# Altium footprint library LPON_CAP.PcbLib: 108 footprints (part 4 of 7)
Each footprint in its own frame and in the unit in brackets; x right, y up, seen from the top. Pads: shape width x height; smd on the part's side, far side on the other; paste and mask are expansions set on the pad; w line width, h text height; cw(c..) or ccw(c..) is an arc to the next point about the centre after c.
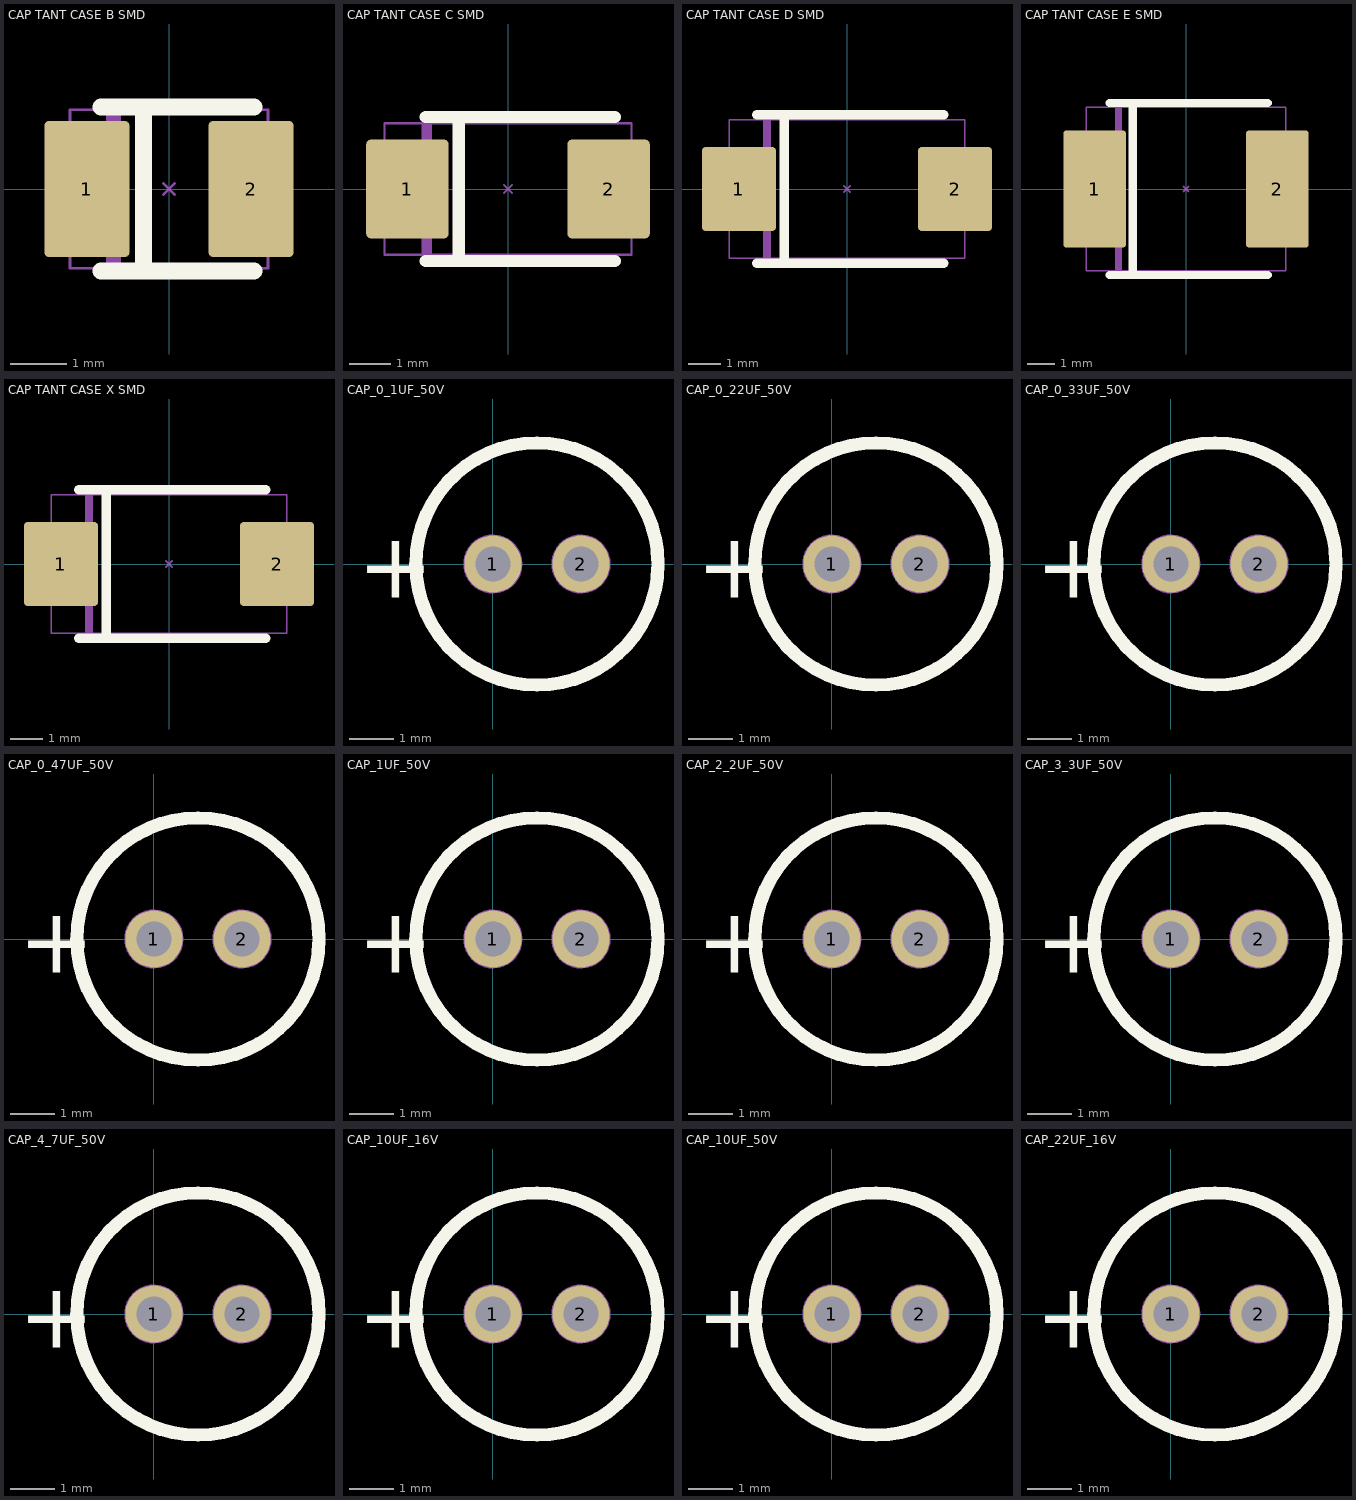
[diagram p3: the footprints below, top view; thin cyan lines are the x and y axes]

## CAP TANT CASE B SMD [mm]
height 2.1
pads (2):
  rrect10% 1.5x2.4 smd mask+0.1: 1(-1.45,0) 2(1.45,0)
Top Overlay:
  lines w0.3: -1.2,-1.45 1.5,-1.45 ; -1.2,1.45 1.5,1.45 ; -0.45,-1.45 -0.45,1.45
Mechanical 2:
  rectangle: -1.11,-1.4 -0.85,1.4
  lines w0.05: -1.5,0 -1.2,0 ; -1.35,-0.15 -1.35,0.15 ; -0.1,-0.1 0.1,0.1 ; -0.1,0.1 0.1,-0.1 ; -1.75,-1.4 1.75,-1.4 1.75,1.4 -1.75,1.4 -1.75,-1.4
3D body "User Library-CaseB_3528-21.STEP": height 2, standoff 0.1, extent -1.75,-1.4 1.75,1.4

## CAP TANT CASE C SMD [mm]
height 2.8
pads (2):
  rrect10% 2x2.4 smd mask+0.1: 1(-2.45,0) 2(2.45,0)
Top Overlay:
  lines w0.3: -2,-1.752 2.6,-1.752 ; -2,1.752 2.6,1.752 ; -1.2,-1.752 -1.2,1.752
Mechanical 2:
  rectangle: -2.11,-1.6 -1.85,1.6
  lines w0.05: -2.67,0 -2.37,0 ; -2.52,-0.15 -2.52,0.15 ; -0.1,-0.1 0.1,0.1 ; -0.1,0.1 0.1,-0.1 ; -3,-1.6 -3,1.6 3,1.6 3,-1.6 -3,-1.6
3D body "User Library-CaseC_6032-28.STEP": height 2.6, standoff 0.1, extent -2.995,-1.601 3.005,1.599

## CAP TANT CASE D SMD [mm]
height 2.8
pads (2):
  rrect10% 2.3x2.6 smd mask+0.1: 1(-3.35,0) 2(3.35,0)
Top Overlay:
  lines w0.3: -2.8,-2.3 3,-2.3 ; -2.8,2.3 3,2.3 ; -1.948,-2.3 -1.948,2.3
Mechanical 2:
  rectangle: -2.61,-2.15 -2.35,2.15
  lines w0.05: -3.2,0 -2.9,0 ; -3.05,-0.15 -3.05,0.15 ; -0.1,-0.1 0.1,0.1 ; -0.1,0.1 0.1,-0.1 ; -3.65,-2.15 -3.65,2.15 3.65,2.15 3.65,-2.15 -3.65,-2.15
3D body "User Library-CaseD_7343-31.STEP": height 2.85, standoff 0.05, extent -3.65,-2.15 3.65,2.15

## CAP TANT CASE E SMD [mm]
height 4.1
pads (2):
  rrect10% 2.3x4.3 smd mask+0.1: 1(-3.35,0) 2(3.35,0)
Top Overlay:
  lines w0.3: -2.8,-3.15 3,-3.15 ; -2.8,3.15 3,3.15 ; -1.95,-3.15 -1.95,3.15
Mechanical 2:
  rectangle: -2.61,-3 -2.35,3
  lines w0.05: -3.2,0 -2.9,0 ; -3.05,-0.15 -3.05,0.15 ; -0.1,-0.1 0.1,0.1 ; -0.1,0.1 0.1,-0.1 ; -3.65,-3 -3.65,3 3.65,3 3.65,-3 -3.65,-3
3D body "User Library-CaseE_7260-38.STEP": height 3.6, standoff 0, extent -3.65,-3 3.65,3

## CAP TANT CASE X SMD [mm]
height 4
pads (2):
  rrect10% 2.3x2.6 smd mask+0.1: 1(-3.35,0) 2(3.35,0)
Top Overlay:
  lines w0.3: -2.8,-2.3 3,-2.3 ; -2.8,2.3 3,2.3 ; -1.948,-2.3 -1.948,2.3
Mechanical 2:
  rectangle: -2.61,-2.15 -2.35,2.15
  lines w0.05: -3.2,0 -2.9,0 ; -3.05,-0.15 -3.05,0.15 ; -0.1,-0.1 0.1,0.1 ; -0.1,0.1 0.1,-0.1 ; -3.65,-2.15 3.65,-2.15 3.65,2.15 -3.65,2.15 -3.65,-2.15
3D body "User Library-CaseX_7343-43.STEP": height 4, standoff 0, extent -3.65,-2.15 3.65,2.15

## CAP_0_1UF_50V [mm] "Capacitor, Electrolytic, Radial; Body 5 x 11 mm (Dia.xH typ); Pin Spacing 2 mm (typ)"
height 12
pads (2):
  round 1.3 hole 0.8: 1(0,0) 2(2,0)
Top Overlay:
  circle w0.3: c1,0 r2.75
  text "+" at -3.064,-0.762 h1.5
Mechanical 1:
  circle w0.05: c1,0 r2.75
  circle w0.05: c2,0 r0.65
  circle w0.05: c0,0 r0.65
  text "C?" at 0,0 h0.5
  text "2" at 1.7,-0.5 h1
  text "1" at -0.2,-0.5 h1
  text "+" at -1.5,-0.5 h1
3D body "Cap Polar 5x11.STEP": height 11.53, standoff -3.27, extent -1.525,-2.525 3.525,2.525

## CAP_0_22UF_50V [mm] "Capacitor, Electrolytic, Radial; Body 5 x 11 mm (Dia.xH typ); Pin Spacing 2 mm (typ)"
height 12
pads (2):
  round 1.3 hole 0.8: 1(0,0) 2(2,0)
Top Overlay:
  circle w0.3: c1,0 r2.75
  text "+" at -3.064,-0.762 h1.5
Mechanical 1:
  circle w0.05: c0,0 r0.65
  circle w0.05: c2,0 r0.65
  circle w0.05: c1,0 r2.75
  text "+" at -1.5,-0.5 h1
  text "1" at -0.2,-0.5 h1
  text "2" at 1.7,-0.5 h1
  text "C?" at 0,0 h0.5
3D body "Cap Polar 5x11.STEP": height 11.53, standoff -3.27, extent -1.525,-2.525 3.525,2.525

## CAP_0_33UF_50V [mm] "Capacitor, Electrolytic, Radial; Body 5 x 11 mm (Dia.xH typ); Pin Spacing 2 mm (typ)"
height 12
pads (2):
  round 1.3 hole 0.8: 1(0,0) 2(2,0)
Top Overlay:
  circle w0.3: c1,0 r2.75
  text "+" at -3.064,-0.762 h1.5
Mechanical 1:
  circle w0.05: c0,0 r0.65
  circle w0.05: c2,0 r0.65
  circle w0.05: c1,0 r2.75
  text "+" at -1.5,-0.5 h1
  text "1" at -0.2,-0.5 h1
  text "2" at 1.7,-0.5 h1
3D body "Cap Polar 5x11.STEP": height 11.53, standoff -3.27, extent -1.525,-2.525 3.525,2.525

## CAP_0_47UF_50V [mm] "Capacitor, Electrolytic, Radial; Body 5 x 11 mm (Dia.xH typ); Pin Spacing 2 mm (typ)"
height 12
pads (2):
  round 1.3 hole 0.8: 1(0,0) 2(2,0)
Top Overlay:
  circle w0.3: c1,0 r2.75
  text "+" at -3.064,-0.762 h1.5
Mechanical 1:
  circle w0.05: c0,0 r0.65
  circle w0.05: c2,0 r0.65
  circle w0.05: c1,0 r2.75
  text "+" at -1.5,-0.5 h1
  text "1" at -0.2,-0.5 h1
  text "2" at 1.7,-0.5 h1
3D body "Cap Polar 5x11.STEP": height 11.53, standoff -3.27, extent -1.525,-2.525 3.525,2.525

## CAP_1UF_50V [mm] "Capacitor, Electrolytic, Radial; Body 5 x 11 mm (Dia.xH typ); Pin Spacing 2 mm (typ)"
height 12
pads (2):
  round 1.3 hole 0.8: 1(0,0) 2(2,0)
Top Overlay:
  circle w0.3: c1,0 r2.75
  text "+" at -3.064,-0.762 h1.5
Mechanical 1:
  circle w0.05: c0,0 r0.65
  circle w0.05: c2,0 r0.65
  circle w0.05: c1,0 r2.75
  text "+" at -1.5,-0.5 h1
  text "1" at -0.2,-0.5 h1
  text "2" at 1.7,-0.5 h1
3D body "Cap Polar 5x11.STEP": height 11.53, standoff -3.27, extent -1.525,-2.525 3.525,2.525

## CAP_2_2UF_50V [mm] "Capacitor, Electrolytic, Radial; Body 5 x 11 mm (Dia.xH typ); Pin Spacing 2 mm (typ)"
height 12
pads (2):
  round 1.3 hole 0.8: 1(0,0) 2(2,0)
Top Overlay:
  circle w0.3: c1,0 r2.75
  text "+" at -3.064,-0.762 h1.5
Mechanical 1:
  circle w0.05: c0,0 r0.65
  circle w0.05: c2,0 r0.65
  circle w0.05: c1,0 r2.75
  text "+" at -1.5,-0.5 h1
  text "1" at -0.2,-0.5 h1
  text "2" at 1.7,-0.5 h1
3D body "Cap Polar 5x11.STEP": height 11.53, standoff -3.27, extent -1.525,-2.525 3.525,2.525

## CAP_3_3UF_50V [mm] "Capacitor, Electrolytic, Radial; Body 5 x 11 mm (Dia.xH typ); Pin Spacing 2 mm (typ)"
height 12
pads (2):
  round 1.3 hole 0.8: 1(0,0) 2(2,0)
Top Overlay:
  circle w0.3: c1,0 r2.75
  text "+" at -3.064,-0.762 h1.5
Mechanical 1:
  circle w0.05: c0,0 r0.65
  circle w0.05: c2,0 r0.65
  circle w0.05: c1,0 r2.75
  text "+" at -1.5,-0.5 h1
  text "1" at -0.2,-0.5 h1
  text "2" at 1.7,-0.5 h1
3D body "Cap Polar 5x11.STEP": height 11.53, standoff -3.27, extent -1.525,-2.525 3.525,2.525

## CAP_4_7UF_50V [mm] "Capacitor, Electrolytic, Radial; Body 5 x 11 mm (Dia.xH typ); Pin Spacing 2 mm (typ)"
height 12
pads (2):
  round 1.3 hole 0.8: 1(0,0) 2(2,0)
Top Overlay:
  circle w0.3: c1,0 r2.75
  text "+" at -3.064,-0.762 h1.5
Mechanical 1:
  circle w0.05: c0,0 r0.65
  circle w0.05: c2,0 r0.65
  circle w0.05: c1,0 r2.75
  text "+" at -1.5,-0.5 h1
  text "1" at -0.2,-0.5 h1
  text "2" at 1.7,-0.5 h1
3D body "Cap Polar 5x11.STEP": height 11.53, standoff -3.27, extent -1.525,-2.525 3.525,2.525

## CAP_10UF_16V [mm] "Capacitor, Electrolytic, Radial; Body 5 x 11 mm (Dia.xH typ); Pin Spacing 2 mm (typ)"
height 12
pads (2):
  round 1.3 hole 0.8: 1(0,0) 2(2,0)
Top Overlay:
  circle w0.3: c1,0 r2.75
  text "+" at -3.064,-0.762 h1.5
Mechanical 1:
  circle w0.05: c1,0 r2.75
  circle w0.05: c2,0 r0.65
  circle w0.05: c0,0 r0.65
  text "2" at 1.7,-0.5 h1
  text "1" at -0.2,-0.5 h1
  text "+" at -1.5,-0.5 h1
3D body "Cap Polar 5x11.STEP": height 11.53, standoff -3.27, extent -1.525,-2.525 3.525,2.525

## CAP_10UF_50V [mm] "Capacitor, Electrolytic, Radial; Body 5 x 11 mm (Dia.xH typ); Pin Spacing 2 mm (typ)"
height 12
pads (2):
  round 1.3 hole 0.8: 1(0,0) 2(2,0)
Top Overlay:
  circle w0.3: c1,0 r2.75
  text "+" at -3.064,-0.762 h1.5
Mechanical 1:
  circle w0.05: c0,0 r0.65
  circle w0.05: c2,0 r0.65
  circle w0.05: c1,0 r2.75
  text "+" at -1.5,-0.5 h1
  text "1" at -0.2,-0.5 h1
  text "2" at 1.7,-0.5 h1
3D body "Cap Polar 5x11.STEP": height 11.53, standoff -3.27, extent -1.525,-2.525 3.525,2.525

## CAP_22UF_16V [mm] "Capacitor, Electrolytic, Radial; Body 5 x 11 mm (Dia.xH typ); Pin Spacing 2 mm (typ)"
height 12
pads (2):
  round 1.3 hole 0.8: 1(0,0) 2(2,0)
Top Overlay:
  circle w0.3: c1,0 r2.75
  text "+" at -3.064,-0.762 h1.5
Mechanical 1:
  circle w0.05: c1,0 r2.75
  circle w0.05: c2,0 r0.65
  circle w0.05: c0,0 r0.65
  text "2" at 1.7,-0.5 h1
  text "1" at -0.2,-0.5 h1
  text "+" at -1.5,-0.5 h1
3D body "Cap Polar 5x11.STEP": height 11.53, standoff -3.27, extent -1.525,-2.525 3.525,2.525